# EAGLE library part LOGIC,DELAYLINE,SERIAL2 (library QuantumOptics)
Programmable delay line, e.g. Maxim DS1124 (0.25nS steps).
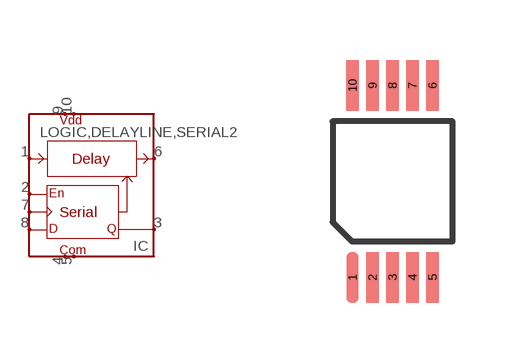
[diagram p148: symbol with the pads of MSOP10; footprint MSOP10]

Designator prefix IC

## LOGIC,DELAYLINE,SERIAL2-USOP10  [MSOP10]
1  IN  in
2  EN  in
3  SQ  out
4  COM1
5  COM2
6  OUT  out
7  CLK  in
8  SD  in
9  VCC1
10  VCC2

## Footprint MSOP10 (pad centres in mm)
MSOP-10 with 4.8mm row spacing. Sameas Maxim's µsop-10.
smd 0.305 x 1.27: 1 -1,-2.4; 2 -0.5,-2.4; 3 0,-2.4; 4 0.5,-2.4; 5 1,-2.4; 6 1,2.4; 7 0.5,2.4; 8 0,2.4; 9 -0.5,2.4; 10 -1,2.4